# Altium footprint library PCB.PCBLIB: 320 footprints (part 1 of 20)
Each footprint in its own frame and in the unit in brackets; x right, y up, seen from the top. Pads: shape width x height; smd on the part's side, far side on the other; paste and mask are expansions set on the pad; w line width, h text height; cw(c..) or ccw(c..) is an arc to the next point about the centre after c.
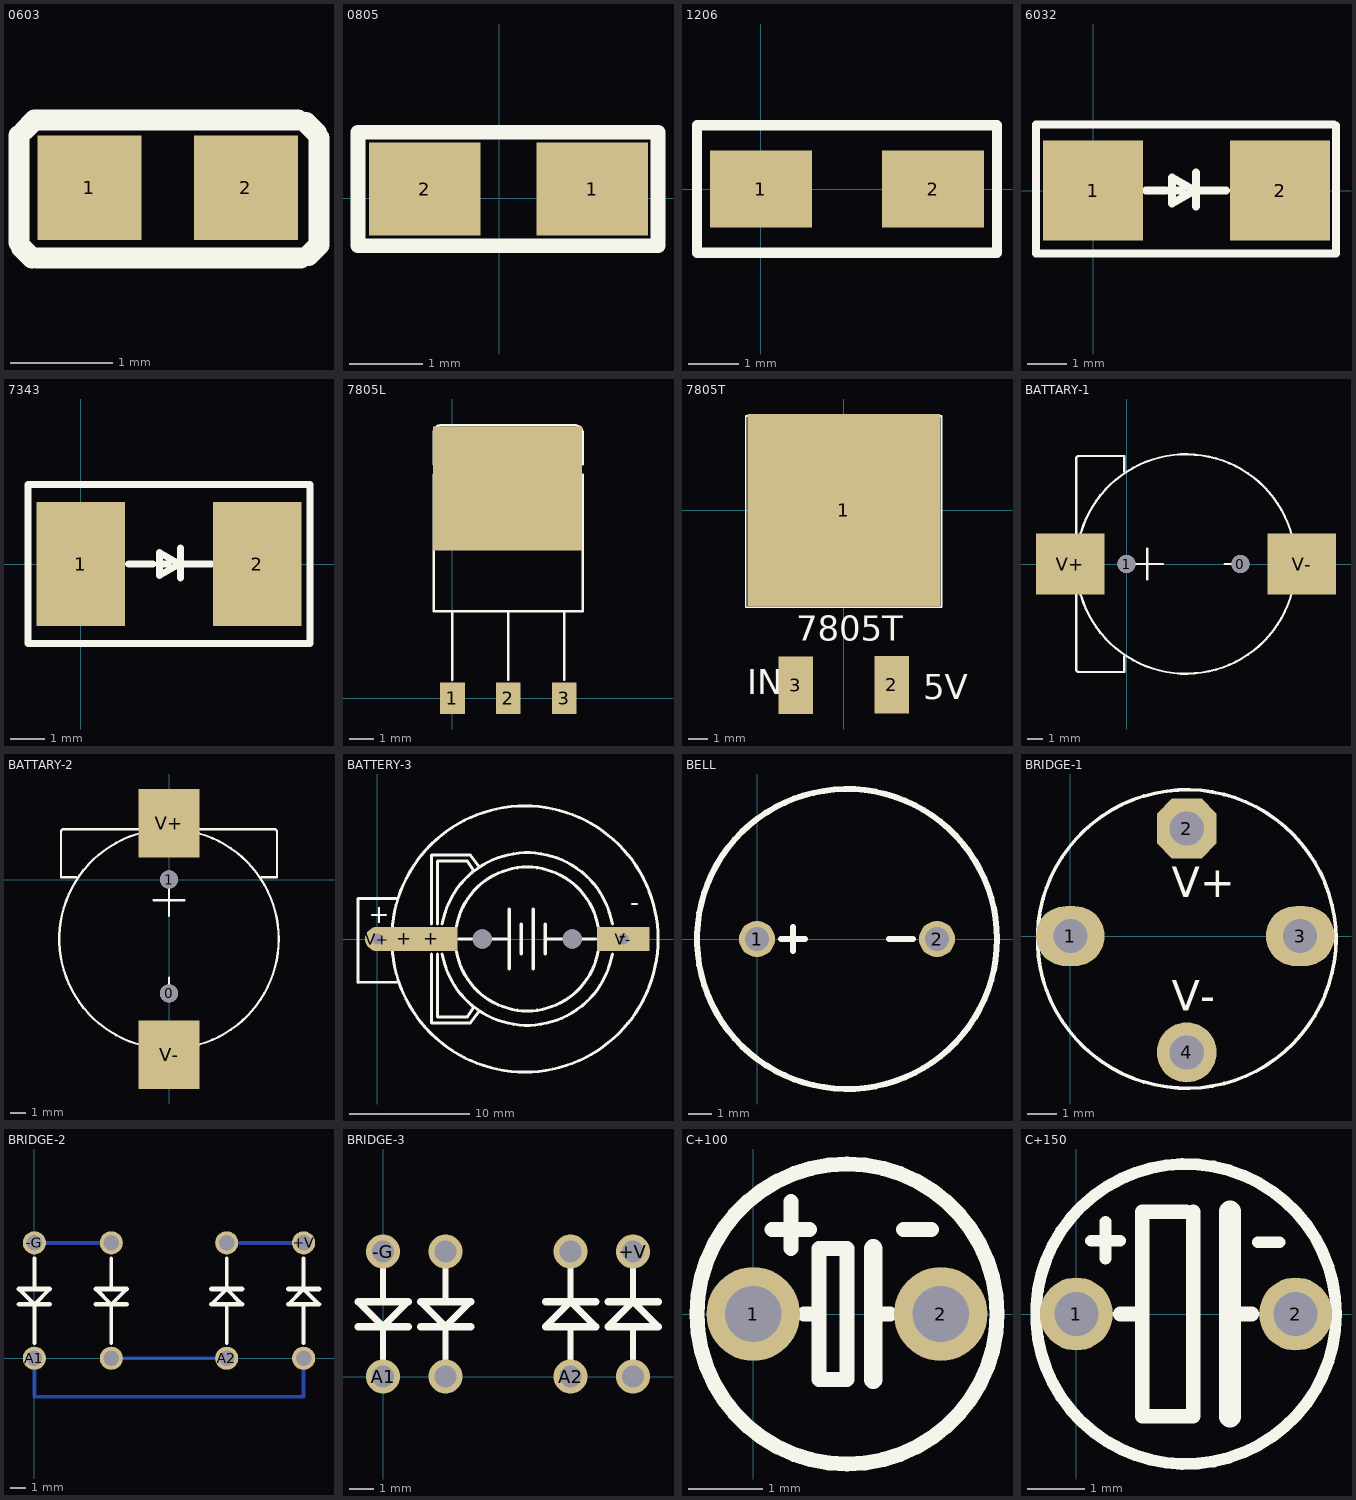
[diagram p0: the footprints below, top view; thin cyan lines are the x and y axes]

## 0603 [mil]
pads (2):
  rect 40x40 smd: 1(24317,533) 2(24377,533)
TopOverlay:
  lines w8: 24290,512 24290,553 ; 24291,510 24295,506 ; 24292,555 24295,558 ; 24296,559 24397,559 ; 24297,506 24398,506 ; 24400,558 24404,554 ; 24401,507 24404,510 ; 24405,511 24405,552

## 0805 [mil]
pads (2):
  rect 60x50 smd: 1(50,5) 2(-40,5)
TopOverlay:
  lines w8: -75.98,-25.51 -75.98,35.51 85.43,35.51 85.43,-25.51 -75.98,-25.51

## 1206 [mil]
pads (2):
  rect 80x60 smd: 1(0,0) 2(135,0)
TopOverlay:
  lines w8: -50,-50 -50,50 25,50 110,50 185,50 185,-50 110,-50 25,-50 -50,-50

## 6032 [mil]
pads (2):
  rect 100x100 smd: 1(0,0) 2(187,0)
TopOverlay:
  lines w8: -57,65 -57,-63 243,-63 243,65 ; -57,66 241,66 ; 53,0 73,0 ; 79,-13 100,-1 ; 79,-12 79,13 100,1 ; 79,0 89,0 ; 103,-16 103,18 ; 106,0 133,0

## 7343 [mil]
pads (2):
  rect 100x140 smd: 1(0,0) 2(200,0)
TopOverlay:
  lines w8: 54,0 82,0 ; 89,-13 110,-1 ; 89,-12 89,13 110,1 ; 89,0 99,0 ; 113,-16 113,18 ; 115,0 148,0 ; -60,-90 -60,90 260,90 260,-90 -60,-90

## 7805L [mm]
pads (4):
  rect 1x1.27 smd: 1(0,0) 2(2.25,0) 3(4.5,0)
  rect 6x5 smd: ""(2.225,8.45)
TopOverlay:
  lines w0.1: -0.75,9.425 -0.75,10.675 ; -0.75,10.7 cw(c-0.45,10.7) -0.45,11 ; -0.425,11 4.925,11 cw(c4.925,10.675) 5.25,10.675 5.25,9.425 ; 0,0.75 0,3.5 ; 2.25,0.75 2.25,3.5 ; 4.5,0.75 4.5,3.5 ; -0.75,3.5 -0.75,9 5.25,9 5.25,3.5 -0.75,3.5

## 7805T [mm]
pads (3):
  rect 10x10 smd: 1(0,0)
  rect 1.8x3 smd: 2(2.5,-9.075) 3(-2.5,-9.1)
TopOverlay:
  lines w0.1: -5.1,-5.047 5.075,-5.047 5.075,4.903 -5.1,4.903 -5.1,-5.047
  text "7805T" at -2.472,-6.785 h1.3
  text "5V" at 4.132,-9.833 h1.3
  text "IN" at -5.012,-9.579 h1.3

## BATTARY-1 [mm]
pads (4):
  round 1.2 hole 1.2: 0(7.493,0) 1(0,0)
  rect 4.5x4 smd: V+(-3.708,0) V-(11.532,0)
TopOverlay:
  circle w0.152: c3.912,0 r7.22
  lines w0.152: -0.152,-6.096 -0.152,-7.112 -3.2,-7.112 -3.308,-7.004 -3.308,0 -3.308,7.004 -3.2,7.112 -0.152,7.112 -0.152,6.096 ; 0.356,0 2.388,0 ; 1.372,-1.016 1.372,1.016 ; 6.452,0 7.976,0

## BATTARY-2 [mm]
pads (4):
  round 1.2 hole 1.2: 0(0,-7.493) 1(0,0)
  rect 4x4.5 smd: V+(0,3.708) V-(0,-11.532)
TopOverlay:
  circle w0.152: c0,-3.912 r7.22
  lines w0.152: -6.096,0.152 -7.112,0.152 -7.112,3.2 -7.004,3.308 0,3.308 7.004,3.308 7.112,3.2 7.112,0.152 6.096,0.152 ; -1.016,-1.372 1.016,-1.372 ; 0,-7.976 0,-6.452 ; 0,-2.388 0,-0.356

## BATTERY-3 [mm]
pads (7):
  rect 4.4x2 smd: +(2.24,0) +(4.5,0) -(20.5,0)
  round 2.032 hole 0.889: V+(0,0) V-(20.5,0)
  round 1.6 hole 1.6 unplated: ""(8.75,0) ""(16.25,0)
TopOverlay:
  circle w0.25: c12.3,0 r11.1
  lines w0.254: 1.65,3.39 -1.61,3.39 -1.61,-3.61 1.71,-3.6 ; 4.5,-1.25 4.5,-7 7.75,-7 8.5,-6 ; 4.5,1.25 4.5,7 7.75,7 8.5,6 ; 5,-1.25 5,-6.5 7.5,-6.5 8,-5.75 ; 5,1.25 5,6.5 7.5,6.5 8,5.75 ; 5.409,-1.25 ccw(c12.5,0) 19.591,-1.25 ; 5.409,1.25 cw(c12.5,0) 19.591,1.25 ; 6.591,-1.042 ccw(c12.5,0) 18.409,-1.042 ; 6.591,1.042 cw(c12.5,0) 18.409,1.042 ; 6.75,0 10.75,0 ; 11,-2.5 11,2.5 ; 12,-1.25 12,1.25 ; 13,-2.5 13,2.5 ; 14,-1.25 14,1.25 ; 14,0 18.25,0
  text "-" at 21.09,2.32 h1.52
  text "+" at -0.71,1.33 h1.52

## BELL [mil]
pads (2):
  round 60 hole 40: 1(0,0) 2(300,0)
TopOverlay:
  circle w10: c150,0 r250
  lines w10: 40,0 80,0 ; 60,-20 60,20 ; 220,0 260,0

## BRIDGE-1 [mm]
pads (4):
  oval 2.3x2.01 hole 1.143: 1(0,0) 3(7.7,0)
  oct 2x2 hole 1.143: 2(3.9,3.6)
  oval 2x2.01 hole 1.143: 4(3.9,-3.9)
TopOverlay:
  circle w0.12: c3.9,-0.1 r5
  text "V+" at 3.394,1.307 h1.02
  text "V-" at 3.394,-2.503 h1.02

## BRIDGE-2 [mil]
pads (8):
  round 60 hole 40: +V(700,300) -G(0,300) A1(0,0) A2(500,0) ""(200,0) ""(200,300) ""(500,300) ""(700,0)
via 0,300 diameter 50 hole 28
BottomLayer:
  lines w10: 0,-80 0,-100 ; 0,0 0,-100 ; 0,300 200,300 ; 200,0 500,0 ; 500,300 700,300 ; 700,0 700,-100 0,-100
TopOverlay:
  lines w10: -40,180 0,140 ; 0,40 0,140 ; 0,180 0,260 ; 40,180 0,140 ; 160,180 200,140 ; 200,40 200,140 ; 200,180 200,260 ; 240,180 200,140 ; 460,140 500,180 ; 500,40 500,140 ; 500,260 500,180 ; 540,140 500,180 ; 660,140 700,180 ; 700,40 700,140 ; 700,260 700,180 ; 740,140 700,180
  lines w12: -40,140 40,140 ; -40,180 40,180 ; 160,140 240,140 ; 160,180 240,180 ; 460,140 540,140 ; 460,180 540,180 ; 660,140 740,140 ; 660,180 740,180

## BRIDGE-3 [mil]
pads (8):
  round 55 hole 35: +V(400,200) -G(0,200) A1(0,0) A2(300,0) ""(100,0) ""(100,200) ""(300,200) ""(400,0)
TopOverlay:
  lines w10: -40,120 0,80 ; 0,20 0,80 ; 0,120 0,180 ; 40,120 0,80 ; 60,120 100,80 ; 100,20 100,80 ; 100,120 100,180 ; 140,120 100,80 ; 260,80 300,120 ; 300,20 300,80 ; 300,180 300,160 300,120 ; 340,80 300,120 ; 360,80 400,120 ; 400,20 400,80 ; 400,180 400,120 ; 440,80 400,120
  lines w12: -40,80 40,80 ; -40,120 40,120 ; 60,80 140,80 ; 60,120 140,120 ; 260,80 340,80 ; 260,120 340,120 ; 360,80 440,80 ; 360,120 440,120

## C+100 [mil]
pads (2):
  round 50 hole 30: 1(0,0) 2(100,0)
TopOverlay:
  circle w8: c50,0 r80
  lines w8: 10,45 30,45 ; 20,35 20,60 ; 27,0 35,0 ; 64,0 73,0 ; 80,45 95,45 ; 35,-35 50,-35 50,35 35,35 35,-35
  lines w10: 64,-35 64,35

## C+150 [mil]
pads (2):
  round 50 hole 30: 1(0,0) 2(150,0)
TopOverlay:
  circle w8: c75,0 r102.59
  lines w8: 10,50 30,50 ; 20,38 20,63 ; 124,49 139,49
  lines w10: 30,0 45,0 ; 75,70 45,70 45,-70 80,-70 80,70 ; 105,0 120,0 ; 140,0 160,0
  lines w15: 105,-70 105,70